# Altium schematic symbol library WS2812B-2020.SchLib: 1 symbol
Pins are listed as number, name and electrical type; pins without a type are passive.

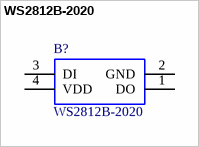
[diagram p0: symbol WS2812B-2020]

## WS2812B-2020
designator B?
RGB SMD,2x2mm Light Emitting Diodes (LED) ROHS; Manufacturer: Worldsemi; Mfr.Part #: WS2812B-2020; Package: SMD,2x2mm; Packaging: Tape & Reel (TR); LCSC Part#: C965555; Datasheet: https://www.mouser.com/pdfDocs/WS2812B-2020_V10_EN_181106150240761.pdf
footprint WS2812B2020
pins: 1 DO, 2 GND, 3 DI, 4 VDD